# Altium footprint library MyPcbLib.PcbLib: 19 footprints (part 1 of 2)
Each footprint in its own frame and in the unit in brackets; x right, y up, seen from the top. Pads: shape width x height; smd on the part's side, far side on the other; paste and mask are expansions set on the pad; w line width, h text height; cw(c..) or ccw(c..) is an arc to the next point about the centre after c.
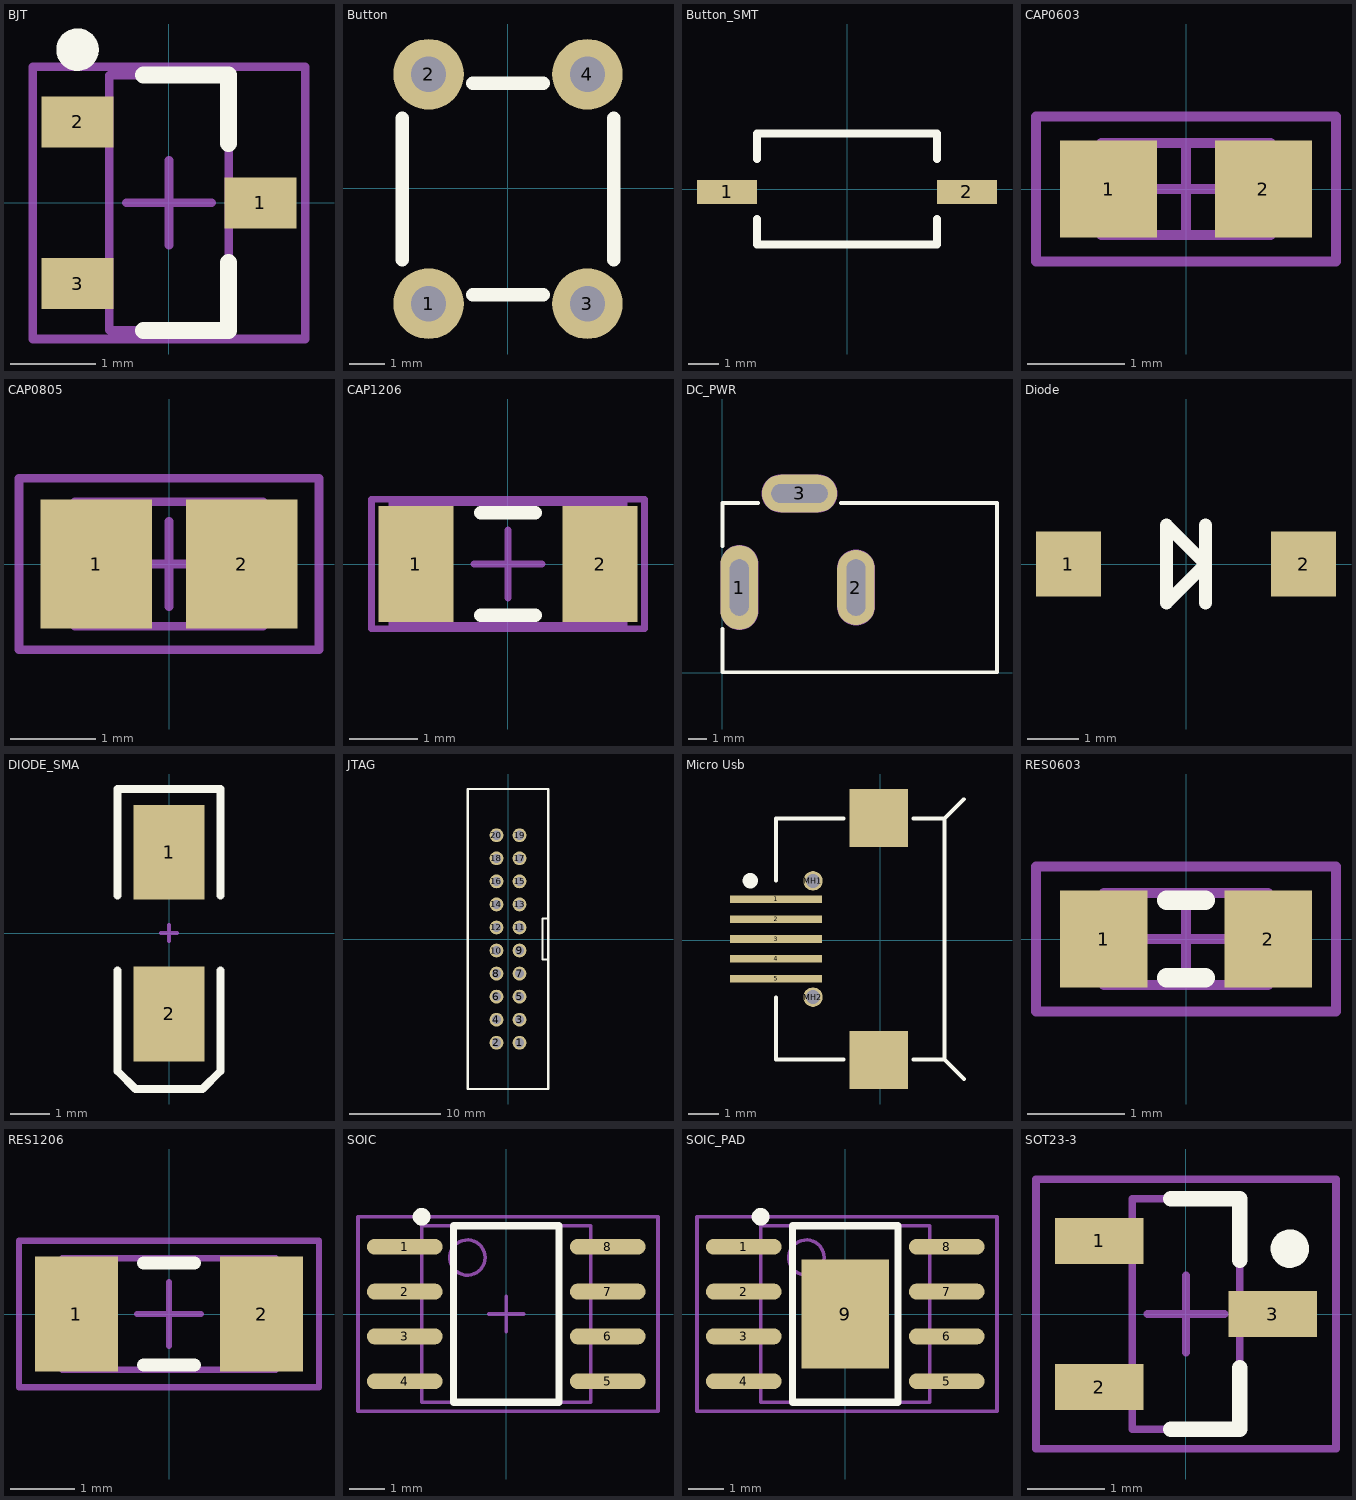
[diagram p0: the footprints below, top view; thin cyan lines are the x and y axes]

## BJT [mm]
pads (3):
  rect 0.85x0.6 smd: 1(1.075,0) 2(-1.075,0.95) 3(-1.075,-0.95)
Top Overlay:
  circle w0.25: c-1.075,1.8 r0.125
  lines w0.2: -0.3,-1.5 0.7,-1.5 0.7,-0.7 ; -0.3,1.5 0.7,1.5 0.7,0.7
Mechanical 13:
  lines w0.1: -0.7,-1.5 0.7,-1.5 0.7,1.5 -0.7,1.5 -0.7,-1.5
Mechanical 15:
  lines w0.1: -0.5,0 0.5,0 ; 0,-0.5 0,0.5 ; -1.6,-1.6 1.6,-1.6 1.6,1.6 -1.6,1.6 -1.6,-1.6
3D body: height 1.14, standoff 0, extent -0.7,-1.5 0.7,1.5

## Button [mm]
pads (4):
  round 2 hole 1: 1(-2.24,-3.275) 2(-2.24,3.225) 3(2.26,-3.275) 4(2.26,3.225)
Top Overlay:
  lines w0.381: -2.99,-2.025 -2.99,1.975 ; -0.99,-3.025 1.01,-3.025 ; -0.99,2.975 1.01,2.975 ; 3.01,-2.025 3.01,1.975

## Button_SMT [mm]
pads (2):
  rect 2x0.8 smd: 1(-4,-0.1) 2(4,-0.1)
Top Overlay:
  lines w0.254: -3,-1 -3,-1.85 3,-1.85 3,-1 ; -3,1 -3,1.85 3,1.85 3,1

## CAP0603 [mm]
pads (2):
  rect 1x1 smd: 1(-0.8,0) 2(0.8,0)
Mechanical 13:
  lines w0.1: -0.875,-0.475 0.875,-0.475 0.875,0.475 -0.875,0.475 -0.875,-0.475
Mechanical 15:
  lines w0.1: -0.475,0 0.475,0 ; 0,-0.475 0,0.475 ; -1.55,-0.75 1.55,-0.75 1.55,0.75 -1.55,0.75 -1.55,-0.75
3D body: height 0.85, standoff 0, extent -0.875,-0.475 0.875,0.475

## CAP0805 [mm]
pads (2):
  rect 1.3x1.5 smd: 1(-0.85,0) 2(0.85,0)
Mechanical 13:
  lines w0.1: -1.1,-0.725 1.1,-0.725 1.1,0.725 -1.1,0.725 -1.1,-0.725
Mechanical 15:
  lines w0.1: -0.5,0 0.5,0 ; 0,-0.5 0,0.5 ; -1.75,-1 1.75,-1 1.75,1 -1.75,1 -1.75,-1
3D body: height 1.1, standoff 0, extent -1.1,-0.725 1.1,0.725

## CAP1206 [mm]
pads (2):
  rect 1.1x1.7 smd: 1(-1.35,0) 2(1.35,0)
Top Overlay:
  lines w0.2: -0.4,-0.75 0.4,-0.75 ; -0.4,0.75 0.4,0.75
Mechanical 13:
  lines w0.1: -1.7,-0.9 -1.7,0.9 1.7,0.9 1.7,-0.9 -1.7,-0.9
Mechanical 15:
  lines w0.1: -0.5,0 0.5,0 ; 0,-0.5 0,0.5 ; -2,-0.95 -2,0.95 2,0.95 2,-0.95 -2,-0.95
3D body: height 1.3, standoff 0, extent -1.7,-0.9 1.7,0.9

## DC_PWR [mm]
pads (3):
  oval 2x4.5 hole 3 slot 1 at 0 deg: 1(0.912,4.531)
  oval 2x4 hole 3 slot 1 at 0 deg: 2(7.112,4.531)
  oval 4x2 hole 1 slot 3 at 0 deg: 3(4.112,9.531)
Top Overlay:
  lines w0.2: 0.012,2.331 0.012,0.031 14.612,0.031 14.612,9.031 6.312,9.031 ; 0.012,6.731 0.012,9.031 1.912,9.031
Top Solder:
  lines w1: 0.912,3.281 0.912,5.781
Mechanical 1:
  lines w1: 3.112,9.531 5.112,9.531 ; 7.112,3.531 7.112,5.531
Mechanical 2:
  region: 0.412,3.281 0.412,3.181 0.488,2.997 0.629,2.856 0.812,2.78 1.012,2.78 1.195,2.856 1.336,2.997 1.412,3.181 1.412,3.281 1.412,5.781 1.412,5.88 1.336,6.064 1.195,6.205 1.012,6.281 0.812,6.281 0.629,6.205 0.488,6.064 0.412,5.88 0.412,5.781
  lines w2.016: 0.912,3.281 0.912,5.781 ; 3.112,9.531 5.112,9.531 ; 7.112,3.531 7.112,5.531

## Diode [mm]
pads (2):
  rect 1.27x1.27 smd paste+0: 1(-2.3,0) 2(2.3,0)
Top Overlay:
  lines w0.254: 0.381,-0.762 0.381,0.762 ; -0.381,-0.762 0.381,0 -0.381,0.762 -0.381,-0.762

## DIODE_SMA [mm]
pads (2):
  rect 1.8x2.4 smd: 1(0,2.05) 2(0,-2.05)
Top Overlay:
  lines w0.2: -1.3,-0.95 -1.3,-3.5 -0.85,-3.95 0.85,-3.95 1.3,-3.5 1.3,-0.95 ; -1.3,0.95 -1.3,3.65 1.3,3.65 1.3,0.95
Mechanical 1:
  lines w0.1: -0.2,0 0.2,0 ; 0,-0.2 0,0.2

## JTAG [mil]
pads (20):
  round 60 hole 39.37: 1(50,-450) 2(-50,-450) 3(50,-350) 4(-50,-350) 5(50,-250) 6(-50,-250) 7(50,-150) 8(-50,-150) 9(50,-50) 10(-50,-50) 11(50,50) 12(-50,50) 13(50,150) 14(-50,150) 15(50,250) 16(-50,250) 17(50,350) 18(-50,350) 19(50,450) 20(-50,450)
Top Overlay:
  lines w10: 175.2,-88.58 149.61,-88.58 149.61,88.58 175.2,88.58 ; -175.2,-650.59 175.2,-650.59 175.2,650.59 -175.2,650.59 -175.2,-650.59

## Micro Usb [mm]
pads (9):
  rect 3x0.25 smd: 1(-3.409,1.338) 2(-3.409,0.688) 3(-3.409,0.038) 4(-3.409,-0.612) 5(-3.409,-1.262)
  round 0.635 hole 0.457 unplated: MH1(-2.201,1.938) MH2(-2.201,-1.862)
  rect 1.9x1.9 smd: ""(-0.051,-3.912) ""(-0.051,3.988)
Top Overlay:
  circle w0.25: c-4.249,1.943 r0.125
  lines w0.127: -3.409,-3.899 -1.203,-3.899 ; -3.409,-3.862 -3.409,-1.867 ; -3.409,1.943 -3.409,3.938 ; -3.409,3.975 -1.203,3.975 ; 1.083,-3.899 2.099,-3.899 2.729,-4.529 ; 1.083,3.975 2.099,3.975 2.729,4.605 ; 2.099,-3.862 2.099,3.938

## RES0603 [mm]
pads (2):
  rect 0.9x1 smd: 1(-0.85,0) 2(0.85,0)
Top Overlay:
  lines w0.2: -0.2,-0.4 0.2,-0.4 ; -0.2,0.4 0.2,0.4
Mechanical 13:
  lines w0.1: -0.85,-0.475 -0.85,0.475 0.85,0.475 0.85,-0.475 -0.85,-0.475
Mechanical 15:
  lines w0.1: -0.475,0 0.475,0 ; 0,-0.475 0,0.475 ; -1.55,-0.75 -1.55,0.75 1.55,0.75 1.55,-0.75 -1.55,-0.75
3D body: height 0.6, standoff 0, extent -0.85,-0.475 0.85,0.475

## RES1206 [mm]
pads (2):
  rect 1.3x1.8 smd: 1(-1.45,0) 2(1.45,0)
Top Overlay:
  lines w0.2: -0.4,-0.8 0.4,-0.8 ; -0.4,0.8 0.4,0.8
Mechanical 13:
  lines w0.1: -1.675,-0.875 1.675,-0.875 1.675,0.875 -1.675,0.875 -1.675,-0.875
Mechanical 15:
  lines w0.1: -0.5,0 0.5,0 ; 0,-0.5 0,0.5 ; -2.35,-1.15 2.35,-1.15 2.35,1.15 -2.35,1.15 -2.35,-1.15
3D body: height 0.71, standoff 0, extent -1.675,-0.875 1.675,0.875

## SOIC [mm]
pads (8):
  oval 2.15x0.45 smd: 1(-2.875,1.905) 2(-2.875,0.635) 3(-2.875,-0.635) 4(-2.875,-1.905) 5(2.875,-1.905) 6(2.875,-0.635) 7(2.875,0.635) 8(2.875,1.905)
Top Overlay:
  circle w0.25: c-2.4,2.755 r0.125
  lines w0.2: -1.5,-2.5 1.5,-2.5 1.5,2.5 -1.5,2.5 -1.5,-2.5
Mechanical 13:
  circle w0.1: c-1.1,1.6 r0.5
  lines w0.1: -2.4,-2.5 2.4,-2.5 2.4,2.5 -2.4,2.5 -2.4,-2.5
Mechanical 15:
  lines w0.1: -0.5,0 0.5,0 ; 0,-0.5 0,0.5 ; -4.2,-2.75 4.3,-2.75 4.3,2.75 -4.2,2.75 -4.2,-2.75
3D body: height 1.75, standoff 0, extent -2.4,-2.5 2.4,2.5

## SOIC_PAD [mm]
pads (9):
  oval 2.15x0.45 smd: 1(-2.875,1.905) 2(-2.875,0.635) 3(-2.875,-0.635) 4(-2.875,-1.905) 5(2.875,-1.905) 6(2.875,-0.635) 7(2.875,0.635) 8(2.875,1.905)
  rect 2.49x3.1 smd: 9(0,0)
Top Overlay:
  circle w0.25: c-2.4,2.755 r0.125
  lines w0.2: -1.5,-2.5 -1.5,2.5 1.5,2.5 1.5,-2.5 -1.5,-2.5
Mechanical 13:
  circle w0.1: c-1.1,1.6 r0.5
  lines w0.1: -2.4,-2.5 -2.4,2.5 2.4,2.5 2.4,-2.5 -2.4,-2.5
Mechanical 15:
  lines w0.1: -0.5,0 0.5,0 ; 0,-0.5 0,0.5 ; -4.2,-2.75 -4.2,2.75 4.3,2.75 4.3,-2.75 -4.2,-2.75
3D body: height 1.75, standoff 0, extent -2.4,-2.5 2.4,2.5

## SOT23-3 [mm]
pads (3):
  rect 1.15x0.6 smd: 1(-1.125,0.95) 2(-1.125,-0.95) 3(1.125,0)
Top Overlay:
  circle w0.25: c1.35,0.85 r0.125
  lines w0.2: -0.2,-1.5 0.7,-1.5 0.7,-0.7 ; -0.2,1.5 0.7,1.5 0.7,0.7
Mechanical 13:
  lines w0.1: -0.7,-1.5 -0.7,1.5 0.7,1.5 0.7,-1.5 -0.7,-1.5
Mechanical 15:
  lines w0.1: -0.5,0 0.5,0 ; 0,-0.5 0,0.5 ; -1.95,-1.75 -1.95,1.75 1.95,1.75 1.95,-1.75 -1.95,-1.75
3D body: height 1.1, standoff 0, extent -0.7,-1.5 0.7,1.5